# EAGLE library part BM10NB-16 (library Deegou_Connector)
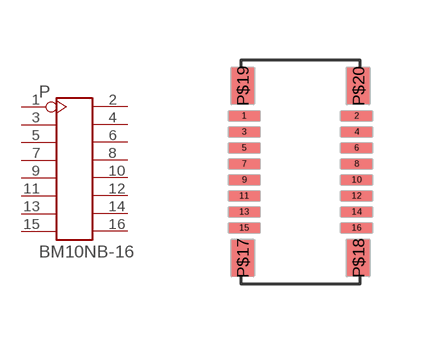
[diagram p42: symbol with the pads of BM10NB-16; footprint BM10NB-16]

Designator prefix P

## BM10NB-16BM10NB-16  [BM10NB-16]
1  1
2  2
3  3
4  4
5  5
6  6
7  7
8  8
9  9
10  10
11  11
12  12
13  13
14  14
15  15
16  16

## Footprint BM10NB-16 (pad centres in mm)
smd 0.762 x 0.23: 1 -1.482,1.371; 2 1.328,1.371; 3 -1.482,0.971; 4 1.328,0.971; 5 -1.482,0.571; 6 1.328,0.571; 7 -1.482,0.171; 8 1.328,0.171; 9 -1.482,-0.229; 10 1.328,-0.229; 11 -1.482,-0.629; 12 1.328,-0.629; 13 -1.482,-1.029; 14 1.328,-1.029; 15 -1.482,-1.429; 16 1.328,-1.429
smd 0.55 x 0.9: P$17 -1.525,-2.181; P$18 1.368,-2.177; P$19 -1.525,2.12; P$20 1.368,2.12